# Altium footprint library Resistors THD.PcbLib: 107 footprints (part 2 of 7)
Each footprint in its own frame and in the unit in brackets; x right, y up, seen from the top. Pads: shape width x height; smd on the part's side, far side on the other; paste and mask are expansions set on the pad; w line width, h text height; cw(c..) or ccw(c..) is an arc to the next point about the centre after c.
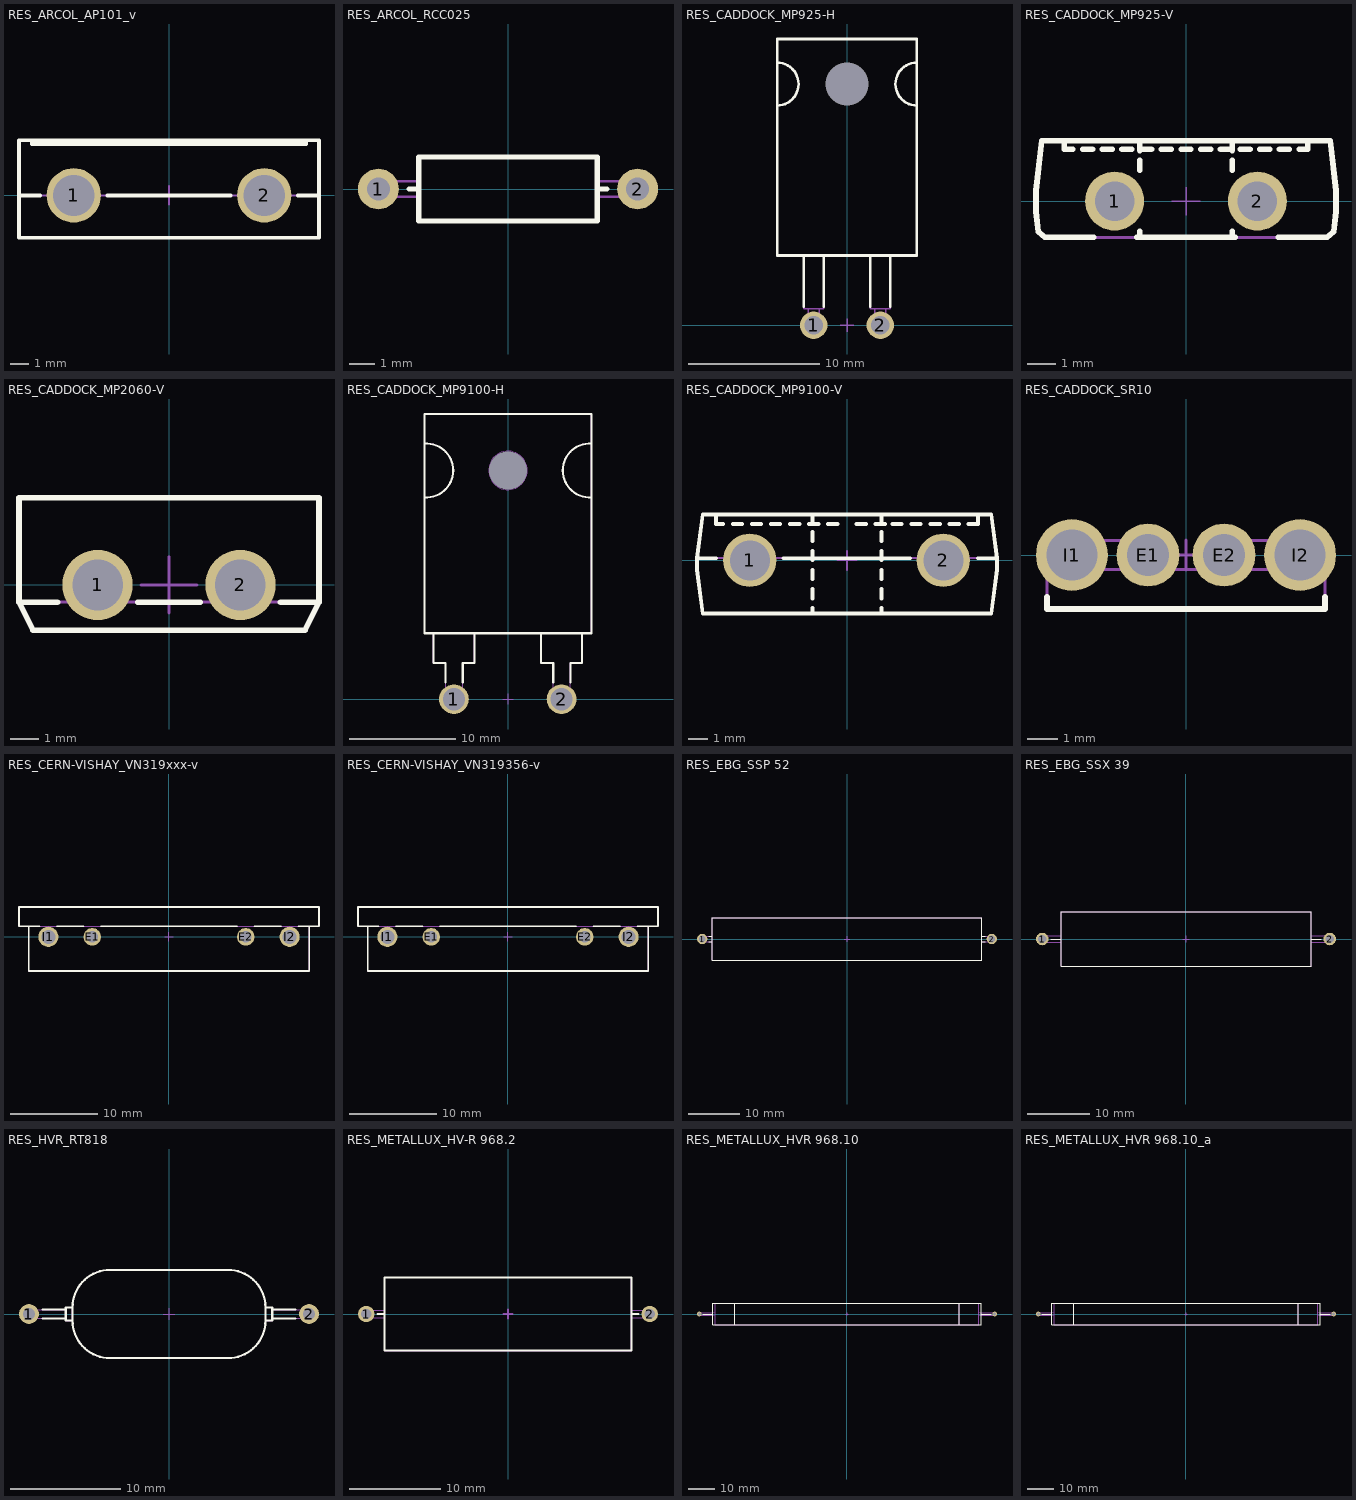
[diagram p1: the footprints below, top view; thin cyan lines are the x and y axes]

## RES_ARCOL_AP101_v [mm] "ARCOL AP101SerieS TO-247 Style, 100W High Power Resistor - Vertical Mount"
height 29.6
pads (2):
  round 2.9 hole 2.2: 1(-5.08,0) 2(5.08,0)
Top Overlay:
  lines w0.2: -8,0 -6.88,0 ; -7.3,2.945 -7.3,2.745 7.3,2.745 7.3,2.945 ; -3.28,0 3.28,0 ; 6.88,0 8,0 ; -8,-2.265 8,-2.265 8,2.945 0,2.945 -8,2.945 -8,-2.265
Mechanical 8:
  circle w0.1: c-5.08,0 r0.95
  circle w0.1: c-5.08,0 r1.3
  circle w0.1: c5.08,0 r0.95
  circle w0.1: c5.08,0 r1.3
  lines w0.1: -5.58,0 -5.08,0 ; -5.08,-0.5 -5.08,0 ; -5.08,0.5 -5.08,0 ; -4.58,0 -5.08,0 ; -0.5,0 0,0 ; 0,-0.5 0,0 ; 0,0.5 0,0 ; 0.5,0 0,0 ; 4.58,0 5.08,0 ; 5.08,-0.5 5.08,0 ; 5.08,0.5 5.08,0 ; 5.58,0 5.08,0
Mechanical 14:
  lines w0.1: -8,0 8,0 ; -7.3,2.945 -7.3,2.745 7.3,2.745 7.3,2.945 ; -8,-2.265 8,-2.265 8,2.945 0,2.945 -8,2.945 -8,-2.265
3D body "RES_ARCOL_AP101_v.stp": height 29.59, standoff -3, extent -8,-2.265 8,2.945

## RES_ARCOL_RCC025 [mm] "Resistor, Axial, Pad spacing 10.16 mm - Body Lengh 6.3m X Body Diameter 2.4mm"
height 2.5
pads (2):
  round 1.6 hole 0.9: 1(-5.08,0) 2(5.08,0)
Top Overlay:
  lines w0.2: -3.88,0 -3.5,0 ; 3.5,0 3.88,0 ; -3.5,-1.25 -3.5,1.25 3.5,1.25 3.5,-1.25 -3.5,-1.25
Mechanical 14:
  lines w0.1: -3.5,-0.3 -5.08,-0.3 cw(c-5.08,0) -5.08,0.3 -3.5,0.3 ; 3.5,-0.3 5.08,-0.3 ccw(c5.08,0) 5.08,0.3 3.5,0.3 ; -3.5,-1.25 -3.5,1.25 3.5,1.25 3.5,-1.25 -3.5,-1.25
3D body "RES_ARCOL_RCC025.stp": height 2.5, standoff -3.2, extent -5.38,-1.25 5.38,1.25

## RES_CADDOCK_MP925-H [mm] "CADDOCK MP925 Serie TO-220 Style, Power Film Resistors"
height 3.44
pads (3):
  round 2.1 hole 1.4: 1(-2.54,0) 2(2.54,0)
  round 0.5 hole 3.3 unplated mask+1.4: 3(0,18.4)
Top Overlay:
  lines w0.2: -5.335,16.76 ccw(c-5.335,18.4) -5.335,20.04 ; -3.305,1.4 -3.305,5.32 -1.775,5.32 -1.775,1.4 ; -0.765,5.32 0.765,5.32 ; 1.775,1.4 1.775,5.32 3.305,5.32 3.305,1.4 ; 5.335,16.76 cw(c5.335,18.4) 5.335,20.04 ; -5.335,5.32 -5.335,21.84 5.335,21.84 5.335,5.32 -5.335,5.32
Mechanical 8:
  lines w0.1: -3.04,0 -2.54,0 ; -2.54,-0.5 -2.54,0 ; -2.54,0.5 -2.54,0 ; -2.04,0 -2.54,0 ; -0.5,0 0,0 ; -0.5,18.4 0,18.4 ; 0,-0.5 0,0 ; 0,0.5 0,0 ; 0,17.9 0,18.4 ; 0,18.9 0,18.4 ; 0.5,0 0,0 ; 0.5,18.4 0,18.4 ; 2.04,0 2.54,0 ; 2.54,-0.5 2.54,0 ; 2.54,0.5 2.54,0 ; 3.04,0 2.54,0
Mechanical 14:
  lines w0.1: -2.97,1.26 -2.97,-0.37 -2.11,-0.37 -2.11,1.26 ; -0.765,5.32 0.765,5.32 ; 2.11,1.26 2.11,-0.37 2.97,-0.37 2.97,1.26 ; -5.335,5.32 -5.335,21.84 5.335,21.84 5.335,5.32 -5.335,5.32 ; -3.305,1.26 -1.775,1.26 -1.775,5.32 -3.305,5.32 -3.305,1.26 ; 1.775,1.26 3.305,1.26 3.305,5.32 1.775,5.32 1.775,1.26
3D body "RES_CADDOCK_MP925_H.stp": height 3.44, standoff -3.6, extent -5.335,-0.37 5.335,21.84

## RES_CADDOCK_MP925-V [mm] "CADDOCK MP925 Serie TO-220 Style, Power Film Resistor"
height 20.6
pads (2):
  round 2.1 hole 1.4: 1(-2.54,0) 2(2.54,0)
Top Overlay:
  lines w0.2: -4.335,2.15 -4.335,1.85 -4.025,1.85 ; -3.675,1.85 -3.325,1.85 ; -3.285,-1.29 -5.025,-1.29 -5.249,-1.09 -5.335,-0.37 -5.335,0.37 -5.125,2.15 5.125,2.15 5.335,0.37 5.335,-0.37 5.249,-1.09 5.025,-1.29 3.285,-1.29 ; -2.975,1.85 -2.625,1.85 ; -2.275,1.85 -1.925,1.85 ; -1.75,-1.29 1.75,-1.29 ; -1.64,-1.29 -1.64,-1.072 ; -1.64,1.1 -1.64,1.45 ; -1.64,1.8 -1.64,2.15 ; -1.575,1.85 -1.225,1.85 ; -0.875,1.85 -0.525,1.85 ; -0.175,1.85 0.175,1.85 ; 0.525,1.85 0.875,1.85 ; 1.225,1.85 1.575,1.85 ; 1.64,-1.29 1.64,-1.072 ; 1.64,1.1 1.64,1.45 ; 1.64,1.8 1.64,2.15 ; 1.925,1.85 2.275,1.85 ; 2.625,1.85 2.975,1.85 ; 3.325,1.85 3.675,1.85 ; 4.025,1.85 4.335,1.85 4.335,2.15
Mechanical 8:
  lines w0.05: -3.04,0 -2.54,0 ; -2.54,-0.5 -2.54,0 ; -2.54,0.5 -2.54,0 ; -2.04,0 -2.54,0 ; -0.5,0 0,0 ; 0,-0.5 0,0 ; 0,0.5 0,0 ; 0.5,0 0,0 ; 2.04,0 2.54,0 ; 2.54,-0.5 2.54,0 ; 2.54,0.5 2.54,0 ; 3.04,0 2.54,0
Mechanical 14:
  lines w0.1: -4.335,2.15 -4.335,1.85 -4.025,1.85 ; -3.675,1.85 -3.325,1.85 ; -2.975,1.85 -2.625,1.85 ; -2.275,1.85 -1.925,1.85 ; -1.64,-1.29 -1.64,-1.072 ; -1.64,1.1 -1.64,1.45 ; -1.64,1.8 -1.64,2.15 ; -1.575,1.85 -1.225,1.85 ; -0.875,1.85 -0.525,1.85 ; -0.175,1.85 0.175,1.85 ; 0.525,1.85 0.875,1.85 ; 1.225,1.85 1.575,1.85 ; 1.64,-1.29 1.64,-1.072 ; 1.64,1.1 1.64,1.45 ; 1.64,1.8 1.64,2.15 ; 1.925,1.85 2.275,1.85 ; 2.625,1.85 2.975,1.85 ; 3.325,1.85 3.675,1.85 ; 4.025,1.85 4.335,1.85 4.335,2.15 ; -5.335,-0.37 -5.335,0.37 -5.125,2.15 5.125,2.15 5.335,0.37 5.335,-0.37 5.249,-1.09 5.025,-1.29 -5.025,-1.29 -5.249,-1.09 -5.335,-0.37
3D body "RES_CADDOCK_MP925_V.stp": height 20.6, standoff -3.6, extent -5.335,-1.29 5.335,2.15

## RES_CADDOCK_MP2060-V [mm] "CADDOCK MP3060 Serie, Radial Power Clip Mount Resistor, Pad spacing 5.08mm"
height 21.09
pads (2):
  round 2.5 hole 1.8: 1(-2.54,0) 2(2.54,0)
Top Overlay:
  lines w0.2: -3.965,-0.61 -5.335,-0.61 ; -1.115,-0.61 1.115,-0.61 ; 3.965,-0.61 5.335,-0.61 ; -5.335,-0.61 -4.835,-1.61 4.835,-1.61 5.335,-0.61 ; -5.335,-0.61 -5.335,3.1 5.335,3.1 5.335,-0.61
Mechanical 8:
  lines w0.1: -3.54,0 -2.54,0 ; -2.54,-1 -2.54,0 ; -2.54,1 -2.54,0 ; -1.54,0 -2.54,0 ; -1,0 0,0 ; 0,-1 0,0 ; 0,1 0,0 ; 1,0 0,0 ; 1.54,0 2.54,0 ; 2.54,-1 2.54,0 ; 2.54,1 2.54,0 ; 3.54,0 2.54,0
Mechanical 14:
  lines w0.1: -5.335,-0.61 -4.835,-1.61 4.835,-1.61 5.335,-0.61 ; -5.335,-0.61 -5.335,3.1 5.335,3.1 5.335,-0.61 ; -5.335,-0.61 5.335,-0.61
3D body "RES_CADDOCK_MP2060.stp": height 21.73, standoff -3.4, extent -5.335,-1.61 5.335,3.1

## RES_CADDOCK_MP9100-H [mm] "CADDOCK MP9100 Serie TO-247 Style, Power Film Resistors"
height 5.21
pads (3):
  round 2.8 hole 2.1: 1(-5.105,0) 2(5.055,0)
  round 0.5 hole 3.6 unplated mask+1.55: 3(0,21.59)
Top Overlay:
  lines w0.2: -7.875,19.055 ccw(c-7.71,21.59) -7.875,24.125 ; -7.035,6.22 -7.035,3.43 -5.89,3.43 -5.89,1.575 ; -4.27,1.575 -4.27,3.43 -3.175,3.43 -3.175,6.22 ; 3.125,6.22 3.125,3.43 4.27,3.43 4.27,1.575 ; 5.89,1.575 5.89,3.43 6.985,3.43 6.985,6.22 ; 7.875,19.055 cw(c7.71,21.59) 7.875,24.125 ; -7.875,6.22 7.875,6.22 7.875,26.92 -7.875,26.92 -7.875,6.22
Mechanical 3:
  lines w0.1: -5.89,-0.455 -4.27,-0.455 ; 4.27,-0.455 5.89,-0.455
Mechanical 8:
  lines w0.1: -5.58,0 -5.08,0 ; -5.08,-0.5 -5.08,0 ; -5.08,0.5 -5.08,0 ; -4.58,0 -5.08,0 ; -0.5,0 0,0 ; -0.5,21.59 0,21.59 ; 0,-0.5 0,0 ; 0,0.5 0,0 ; 0,21.09 0,21.59 ; 0,22.09 0,21.59 ; 0.5,0 0,0 ; 0.5,21.59 0,21.59 ; 4.58,0 5.08,0 ; 5.08,-0.5 5.08,0 ; 5.08,0.5 5.08,0 ; 5.58,0 5.08,0
Mechanical 14:
  circle w0.1: c0,21.59 r1.815
  lines w0.1: -7.875,19.055 ccw(c-7.71,21.59) -7.875,24.125 ; -7.035,6.22 -7.035,3.43 -5.89,3.43 -5.89,-0.455 ; -4.27,-0.455 -4.27,3.43 -3.175,3.43 -3.175,6.22 ; 3.125,6.22 3.125,3.43 4.27,3.43 4.27,-0.455 ; 5.89,-0.455 5.89,3.43 6.985,3.43 6.985,6.22 ; 7.875,19.055 cw(c7.71,21.59) 7.875,24.125 ; -7.875,6.22 7.875,6.22 7.875,26.92 -7.875,26.92 -7.875,6.22
3D body "RES_CADDOCK_MP9100_H.stp": height 5.21, standoff -3.8, extent -7.875,-0.455 7.875,26.92

## RES_CADDOCK_MP9100-V [mm] "CADDOCK MP9100 Serie TO-247 Style, Power Film Resistors"
height 27.3
pads (2):
  round 2.8 hole 2.1: 1(-5.105,0) 2(5.055,0)
Top Overlay:
  lines w0.2: -6.875,0.11 -7.875,0.11 ; -6.875,2.41 -6.875,1.91 -6.5,1.91 ; -6,1.91 -5.5,1.91 ; -5,1.91 -4.5,1.91 ; -4,1.91 -3.5,1.91 ; -3.35,0.11 3.3,0.11 ; -3,1.91 -2.5,1.91 ; -2,1.91 -1.5,1.91 ; -1.815,-2.8 -1.815,-2.5 ; -1.815,-2 -1.815,-1.5 ; -1.815,-1 -1.815,-0.5 ; -1.815,0 -1.815,0.5 ; -1.815,1 -1.815,1.5 ; -1.815,2 -1.815,2.41 ; -1,1.91 -0.5,1.91 ; 0.5,1.91 1,1.91 ; 1.5,1.91 2,1.91 ; 1.815,-2.8 1.815,-2.5 ; 1.815,-2 1.815,-1.5 ; 1.815,-1 1.815,-0.5 ; 1.815,0 1.815,0.5 ; 1.815,1 1.815,1.5 ; 1.815,2 1.815,2.41 ; 2.375,1.91 2.875,1.91 ; 3.375,1.91 3.875,1.91 ; 4.375,1.91 4.875,1.91 ; 5.375,1.91 5.875,1.91 ; 6.375,1.91 6.875,1.91 6.875,2.41 ; 6.875,0.11 7.875,0.11 ; -7.875,0.11 -7.875,-0.5 -7.575,-2.8 7.575,-2.8 7.875,-0.5 7.875,0.11 ; -7.875,0.11 -7.575,2.41 7.575,2.41 7.875,0.11
Mechanical 8:
  lines w0.1: -5.605,0 -5.105,0 ; -5.105,-0.5 -5.105,0 ; -5.105,0.5 -5.105,0 ; -4.605,0 -5.105,0 ; -0.5,0 0,0 ; 0,-0.5 0,0 ; 0,0.5 0,0 ; 0.5,0 0,0 ; 4.555,0 5.055,0 ; 5.055,-0.5 5.055,0 ; 5.055,0.5 5.055,0 ; 5.555,0 5.055,0
Mechanical 14:
  lines w0.1: -6.875,2.41 -6.875,1.91 -6.5,1.91 ; -6,1.91 -5.5,1.91 ; -5,1.91 -4.5,1.91 ; -4,1.91 -3.5,1.91 ; -3,1.91 -2.5,1.91 ; -2,1.91 -1.5,1.91 ; -1.815,-2.8 -1.815,-2.5 ; -1.815,-2 -1.815,-1.5 ; -1.815,-1 -1.815,-0.5 ; -1.815,0 -1.815,0.5 ; -1.815,1 -1.815,1.5 ; -1.815,2 -1.815,2.41 ; -1,1.91 -0.5,1.91 ; 0.5,1.91 1,1.91 ; 1.5,1.91 2,1.91 ; 1.815,-2.8 1.815,-2.5 ; 1.815,-2 1.815,-1.5 ; 1.815,-1 1.815,-0.5 ; 1.815,0 1.815,0.5 ; 1.815,1 1.815,1.5 ; 1.815,2 1.815,2.41 ; 2.375,1.91 2.875,1.91 ; 3.375,1.91 3.875,1.91 ; 4.375,1.91 4.875,1.91 ; 5.375,1.91 5.875,1.91 ; 6.375,1.91 6.875,1.91 6.875,2.41 ; -7.875,0.11 7.875,0.11 ; -7.875,0.11 -7.875,-0.5 -7.575,-2.8 7.575,-2.8 7.875,-0.5 7.875,0.11 ; -7.875,0.11 -7.575,2.41 7.575,2.41 7.875,0.11
3D body "RES_CADDOCK_MP9100_V.stp": height 27.33, standoff -3.8, extent -7.875,-2.8 7.875,2.41

## RES_CADDOCK_SR10 [mm] "Precision Current Sense Resistor"
height 9.78
pads (4):
  round 2.1 hole 1.4: E1(-1.27,0) E2(1.27,0)
  round 2.4 hole 1.7: I1(-3.81,0) I2(3.81,0)
Top Overlay:
  lines w0.2: -4.635,-1.4 -4.635,-1.8 4.635,-1.8 4.635,-1.4
Mechanical 8:
  lines w0.1: -4.31,0 -3.81,0 ; -3.81,-0.5 -3.81,0 ; -3.81,0.5 -3.81,0 ; -3.31,0 -3.81,0 ; -1.77,0 -1.27,0 ; -1.27,-0.5 -1.27,0 ; -1.27,0.5 -1.27,0 ; -0.77,0 -1.27,0 ; -0.5,0 0,0 ; 0,-0.5 0,0 ; 0,0.5 0,0 ; 0.5,0 0,0 ; 0.77,0 1.27,0 ; 1.27,-0.5 1.27,0 ; 1.27,0.5 1.27,0 ; 1.77,0 1.27,0 ; 3.31,0 3.81,0 ; 3.81,-0.5 3.81,0 ; 3.81,0.5 3.81,0 ; 4.31,0 3.81,0
Mechanical 14:
  lines w0.1: -4.38,-0.49 -4.38,0.49 -0.95,0.49 -0.95,-0.49 ; 0.95,-0.49 0.95,0.49 4.38,0.49 4.38,-0.49 ; -4.635,-1.8 4.635,-1.8 4.635,-0.49 -4.635,-0.49 -4.635,-1.8
3D body "RES_CADDOCK_SR10.stp": height 9.87, standoff -3.6, extent -4.635,-1.8 4.635,0.49

## RES_CERN-VISHAY_VN319xxx-v [mm] "Custom Made Product VISHAY High Stability Precision Shunt Resistor"
height 25.2
pads (4):
  round 2 hole 1.3: E1(-8.75,0) E2(8.75,0)
  round 2.3 hole 1.6: I1(-13.75,0) I2(13.75,0)
Top Overlay:
  lines w0.2: -16,1.2 -16,-3.9 16,-3.9 16,1.2 ; -14.731,1.2 -17.1,1.2 -17.1,3.4 17.1,3.4 17.1,1.2 14.731,1.2 ; -12.769,1.2 -9.731,1.2 ; -7.769,1.2 7.769,1.2 ; 9.731,1.2 12.769,1.2
Mechanical 8:
  lines w0.1: -14.25,0 -13.75,0 ; -13.75,-0.5 -13.75,0 ; -13.75,0.5 -13.75,0 ; -13.25,0 -13.75,0 ; -9.25,0 -8.75,0 ; -8.75,-0.5 -8.75,0 ; -8.75,0.5 -8.75,0 ; -8.25,0 -8.75,0 ; -0.5,0 0,0 ; 0,-0.5 0,0 ; 0,0.5 0,0 ; 0.5,0 0,0 ; 8.25,0 8.75,0 ; 8.75,-0.5 8.75,0 ; 8.75,0.5 8.75,0 ; 9.25,0 8.75,0 ; 13.25,0 13.75,0 ; 13.75,-0.5 13.75,0 ; 13.75,0.5 13.75,0 ; 14.25,0 13.75,0
Mechanical 14:
  lines w0.1: -17.1,1.2 17.1,1.2 17.1,3.4 -17.1,3.4 -17.1,1.2 ; -16,-3.9 16,-3.9 16,1.2 -16,1.2 -16,-3.9
3D body "RES_CERN-VISHAY_VN319356-v.stp": height 25.2, standoff -3.8, extent -17.1,-3.9 17.1,3.4

## RES_CERN-VISHAY_VN319356-v [mm] "Custom Made Product VISHAY High Stability Precision Shunt Resistor"
height 25.2
pads (4):
  round 2 hole 1.3: E1(-8.75,0) E2(8.75,0)
  round 2.3 hole 1.6: I1(-13.75,0) I2(13.75,0)
Top Overlay:
  lines w0.2: -16,1.2 -16,-3.9 16,-3.9 16,1.2 ; -14.731,1.2 -17.1,1.2 -17.1,3.4 17.1,3.4 17.1,1.2 14.731,1.2 ; -12.769,1.2 -9.731,1.2 ; -7.769,1.2 7.769,1.2 ; 9.731,1.2 12.769,1.2
Mechanical 8:
  lines w0.1: -14.25,0 -13.75,0 ; -13.75,-0.5 -13.75,0 ; -13.75,0.5 -13.75,0 ; -13.25,0 -13.75,0 ; -9.25,0 -8.75,0 ; -8.75,-0.5 -8.75,0 ; -8.75,0.5 -8.75,0 ; -8.25,0 -8.75,0 ; -0.5,0 0,0 ; 0,-0.5 0,0 ; 0,0.5 0,0 ; 0.5,0 0,0 ; 8.25,0 8.75,0 ; 8.75,-0.5 8.75,0 ; 8.75,0.5 8.75,0 ; 9.25,0 8.75,0 ; 13.25,0 13.75,0 ; 13.75,-0.5 13.75,0 ; 13.75,0.5 13.75,0 ; 14.25,0 13.75,0
Mechanical 14:
  lines w0.1: -17.1,1.2 17.1,1.2 17.1,3.4 -17.1,3.4 -17.1,1.2 ; -16,-3.9 16,-3.9 16,1.2 -16,1.2 -16,-3.9
3D body "RES_CERN-VISHAY_VN319356-v.stp": height 25.2, standoff -3.8, extent -17.1,-3.9 17.1,3.4

## RES_EBG_SSP 52 [mm] "Resistor, Axial, Lead Spacing 56.1mm - Body Lengh 52.1mm X Body Diameter 8.2mm"
height 8.2
pads (2):
  round 2 hole 1.3: 1(-28.05,0) 2(28.05,0)
Top Overlay:
  lines w0.2: -26.8,-0.5 -26.05,-0.5 ; -26.8,0.5 -26.05,0.5 ; 26.05,-0.5 26.8,-0.5 ; 26.05,0.5 26.8,0.5 ; -26.05,-4.1 26.05,-4.1 26.05,4.1 -26.05,4.1 -26.05,-4.1
Mechanical 8:
  circle w0.1: c-28.05,0 r0.65
  circle w0.1: c28.05,0 r0.65
  lines w0.1: -28.55,0 -28.05,0 ; -28.05,-0.5 -28.05,0 ; -28.05,0.5 -28.05,0 ; -27.55,0 -28.05,0 ; -0.5,0 0,0 ; 0,-0.5 0,0 ; 0,0.5 0,0 ; 0.5,0 0,0 ; 27.55,0 28.05,0 ; 28.05,-0.5 28.05,0 ; 28.05,0.5 28.05,0 ; 28.55,0 28.05,0
Mechanical 14:
  lines w0.1: -26.05,-0.5 -28.05,-0.5 cw(c-28.05,0) -28.05,0.5 -26.05,0.5 ; 26.05,-0.5 28.05,-0.5 ccw(c28.05,0) 28.05,0.5 26.05,0.5 ; -26.05,-4.1 -26.05,4.1 26.05,4.1 26.05,-4.1 -26.05,-4.1
3D body "RES_EBG_SSP 52.stp": height 8.2, standoff -3.6, extent -28.549,-4.1 28.549,4.1

## RES_EBG_SSX 39 [mm] "Resistor, Axial, Lead Spacing 46mm - Body Lengh 39.5mm X Body Diameter 8.2mm"
height 8.7
pads (2):
  round 2 hole 1.3: 1(-23,0) 2(23,0)
Top Overlay:
  lines w0.2: -21.6,0 -20,0 ; 20,0 21.6,0 ; -20,-4.35 -20,4.35 20,4.35 20,-4.35 -20,-4.35
Mechanical 8:
  lines w0.1: -23.5,0 -23,0 ; -23,-0.5 -23,0 ; -23,0.5 -23,0 ; -22.5,0 -23,0 ; -0.5,0 0,0 ; 0,-0.5 0,0 ; 0,0.5 0,0 ; 0.5,0 0,0 ; 22.5,0 23,0 ; 23,-0.5 23,0 ; 23,0.5 23,0 ; 23.5,0 23,0
Mechanical 14:
  lines w0.1: -20,-0.5 -23,-0.5 cw(c-23,0) -23,0.5 -20,0.5 ; 20,-0.5 23,-0.5 ccw(c23,0) 23,0.5 20,0.5 ; -20,-4.35 -20,4.35 20,4.35 20,-4.35 -20,-4.35
3D body "RES_EBG_SSX 39.stp": height 8.7, standoff -3.6, extent -23.496,-4.35 23.496,4.35

## RES_HVR_RT818 [mm] "Resistor, Axial, Pad spacing 25.4mm - Body L 18.5mm X D 8mm Lead Diameter 0.812mm"
height 8
pads (2):
  round 1.8 hole 1.1: 1(-12.7,0) 2(12.7,0)
Top Overlay:
  lines w0.2: -11.465,-0.406 -9.365,-0.406 ; -11.465,0.406 -9.365,0.406 ; 9.365,-0.406 11.465,-0.406 ; 9.365,0.406 11.465,0.406 ; -8.75,-0.6 ccw(c-5.35,-0.6) -5.35,-4 5.35,-4 ccw(c5.35,-0.6) 8.75,-0.6 ; -8.75,-0.6 -9.365,-0.6 -9.365,0.6 -8.75,0.6 ; -8.75,-0.6 -8.75,0.6 ; -8.75,0.6 cw(c-5.35,0.6) -5.35,4 5.35,4 cw(c5.35,0.6) 8.75,0.6 ; 8.75,-0.6 9.365,-0.6 9.365,0.6 8.75,0.6 ; 8.75,-0.6 8.75,0.6
Mechanical 8:
  lines w0.1: -13.2,0 -12.7,0 ; -12.7,-0.5 -12.7,0 ; -12.7,0.5 -12.7,0 ; -12.2,0 -12.7,0 ; -0.5,0 0,0 ; 0,-0.5 0,0 ; 0,0.5 0,0 ; 0.5,0 0,0 ; 12.2,0 12.7,0 ; 12.7,-0.5 12.7,0 ; 12.7,0.5 12.7,0 ; 13.2,0 12.7,0
Mechanical 14:
  lines w0.1: -9.365,-0.406 -12.7,-0.406 cw(c-12.7,0) -12.7,0.406 -9.365,0.406 ; 9.365,-0.406 12.7,-0.406 ccw(c12.7,0) 12.7,0.406 9.365,0.406 ; -8.75,-0.6 ccw(c-5.35,-0.6) -5.35,-4 5.35,-4 ccw(c5.35,-0.6) 8.75,-0.6 ; -8.75,-0.6 -9.365,-0.6 -9.365,0.6 -8.75,0.6 ; -8.75,-0.6 -8.75,0.6 ; -8.75,0.6 cw(c-5.35,0.6) -5.35,4 5.35,4 cw(c5.35,0.6) 8.75,0.6 ; 8.75,-0.6 9.365,-0.6 9.365,0.6 8.75,0.6 ; 8.75,-0.6 8.75,0.6
3D body "RES_HVR_RT818.stp": height 8, standoff -3.6, extent -13.106,-4 13.106,4

## RES_METALLUX_HV-R 968.2 [mm] "Resistor, Axial, Pad Spacing 31mm - Body Lengh 27mm X Body Diameter 8mm"
height 8
pads (2):
  round 1.8 hole 1.1: 1(-15.5,0) 2(15.5,0)
Top Overlay:
  lines w0.2: -14.275,0 -13.5,0 ; 13.5,0 14.275,0 ; -13.5,-4 -13.5,4 13.5,4 13.5,-4 -13.5,-4
Mechanical 8:
  lines w0.2: -16,0 -15.5,0 ; -15.5,-0.5 -15.5,0 ; -15.5,0.5 -15.5,0 ; -15,0 -15.5,0 ; -0.5,0 0,0 ; 0,-0.5 0,0 ; 0,0.5 0,0 ; 0.5,0 0,0 ; 15,0 15.5,0 ; 15.5,-0.5 15.5,0 ; 15.5,0.5 15.5,0 ; 16,0 15.5,0
Mechanical 14:
  lines w0.1: -13.5,-0.4 -15.5,-0.4 cw(c-15.5,0) -15.5,0.4 -13.5,0.4 ; 13.5,-0.4 15.5,-0.4 ccw(c15.5,0) 15.5,0.4 13.5,0.4 ; -13.5,-4 -13.5,4 13.5,4 13.5,-4 -13.5,-4
3D body "RES_METALLUX_HV-R 968.2.stp": height 8, standoff -3.6, extent -15.9,-4 15.9,4

## RES_METALLUX_HVR 968.10 [mm] "Resistor, Axial, Lead Spacing 112mm - Body Lengh 102mm X Body Diameter 8mm"
height 8
pads (2):
  round 1.8 hole 1.1: 1(-56,0) 2(56,0)
Top Overlay:
  lines w0.2: -54.7,0 -51,0 ; -42.5,-4 -42.5,4 ; 42.5,-4 42.5,4 ; 51,0 54.7,0 ; -51,-4 51,-4 51,4 -51,4 -51,-4
Mechanical 8:
  lines w0.1: -56.5,0 -56,0 ; -56,-0.5 -56,0 ; -56,0.5 -56,0 ; -55.5,0 -56,0 ; -0.5,0 0,0 ; 0,-0.5 0,0 ; 0,0.5 0,0 ; 0.5,0 0,0 ; 55.5,0 56,0 ; 56,-0.5 56,0 ; 56,0.5 56,0 ; 56.5,0 56,0
Mechanical 14:
  lines w0.1: -50,-0.75 -51,-0.4 ; -50,0.75 -51,0.4 ; -42.5,-4 -42.5,4 ; 42.5,-4 42.5,4 ; 50,-0.75 51,-0.4 ; 50,0.75 51,0.4 ; -51,-0.4 -51,0.4 ; -51,-0.4 -56,-0.4 cw(c-56,0) -56,0.4 -51,0.4 ; 51,-0.4 51,0.4 ; 51,-0.4 56,-0.4 ccw(c56,0) 56,0.4 51,0.4 ; -50,-4 50,-4 50,4 -50,4 -50,-4
3D body "RES_METALLUX_HVR 968.10.stp": height 8, standoff -7.6, extent -56.4,-4 56.4,4

## RES_METALLUX_HVR 968.10_a [mm] "Resistor, Axial, Lead Spacing 112mm - Body Lengh 102mm X Body Diameter 8mm, Blue Coating"
height 8
pads (2):
  round 1.8 hole 1.1: 1(-56,0) 2(56,0)
Top Overlay:
  lines w0.2: -54.7,0 -51,0 ; -42.5,-4 -42.5,4 ; 42.5,-4 42.5,4 ; 51,0 54.7,0 ; -51,-4 51,-4 51,4 -51,4 -51,-4
Mechanical 8:
  lines w0.1: -56.5,0 -56,0 ; -56,-0.5 -56,0 ; -56,0.5 -56,0 ; -55.5,0 -56,0 ; -0.5,0 0,0 ; 0,-0.5 0,0 ; 0,0.5 0,0 ; 0.5,0 0,0 ; 55.5,0 56,0 ; 56,-0.5 56,0 ; 56,0.5 56,0 ; 56.5,0 56,0
Mechanical 14:
  lines w0.1: -50,-0.75 -51,-0.4 ; -50,0.75 -51,0.4 ; -42.5,-4 -42.5,4 ; 42.5,-4 42.5,4 ; 50,-0.75 51,-0.4 ; 50,0.75 51,0.4 ; -51,-0.4 -51,0.4 ; -51,-0.4 -56,-0.4 cw(c-56,0) -56,0.4 -51,0.4 ; 51,-0.4 51,0.4 ; 51,-0.4 56,-0.4 ccw(c56,0) 56,0.4 51,0.4 ; -50,-4 50,-4 50,4 -50,4 -50,-4
3D body "RES_METALLUX_HVR 968.10_a.stp": height 8, standoff -7.6, extent -56.4,-4 56.4,4